# Altium footprint library STM32F_Series_PCB_Library_ARAF.PcbLib: 5 footprints
Each footprint in its own frame and in the unit in brackets; x right, y up, seen from the top. Pads: shape width x height; smd on the part's side, far side on the other; paste and mask are expansions set on the pad; w line width, h text height; cw(c..) or ccw(c..) is an arc to the next point about the centre after c.
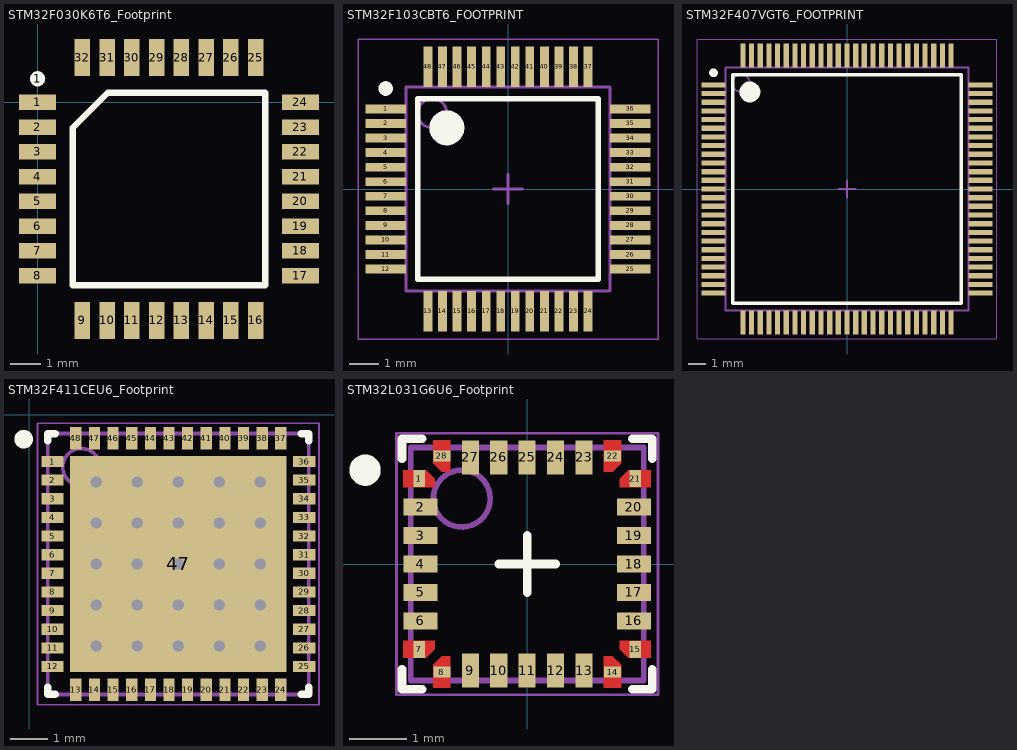
[diagram p0: the footprints below, top view; thin cyan lines are the x and y axes]

## STM32F030K6T6_Footprint [mm]
pads (33):
  rect 1.2x0.5 smd mask+0.038: 1(0,0) 2(0,-0.8) 3(0,-1.6) 4(0,-2.4) 5(0,-3.2) 6(0,-4) 7(0,-4.8) 8(0,-5.6) 17(8.5,-5.6) 18(8.5,-4.8) 19(8.5,-4) 20(8.5,-3.2) 21(8.5,-2.4) 22(8.5,-1.6) 23(8.5,-0.8) 24(8.5,0)
  round 0.5 on Top Overlay mask+0.038: 1(0,0.762)
  rect 0.5x1.2 smd mask+0.038: 9(1.45,-7.05) 10(2.25,-7.05) 11(3.05,-7.05) 12(3.85,-7.05) 13(4.65,-7.05) 14(5.45,-7.05) 15(6.25,-7.05) 16(7.05,-7.05) 25(7.05,1.45) 26(6.25,1.45) 27(5.45,1.45) 28(4.65,1.45) 29(3.85,1.45) 30(3.05,1.45) 31(2.25,1.45) 32(1.45,1.45)
Top Overlay:
  lines w0.2: 1.135,-5.915 7.365,-5.915 7.365,0.315 2.27,0.315 1.135,-0.82 1.135,-5.915
3D body "LQFP-32.step": height 1.6, standoff 0, extent -0.246,-7.296 8.746,1.696

## STM32F103CBT6_FOOTPRINT [mm] "TSQFP, 48-Leads, Body 7.00x7.00mm, Pitch 0.50mm, IPC Medium Density"
height 1.6
pads (48):
  rect 1.4x0.3 smd mask+0.04: 1(-4.2,2.75) 2(-4.2,2.25) 3(-4.2,1.75) 4(-4.2,1.25) 5(-4.2,0.75) 6(-4.2,0.25) 7(-4.2,-0.25) 8(-4.2,-0.75) 9(-4.2,-1.25) 10(-4.2,-1.75) 11(-4.2,-2.25) 12(-4.2,-2.75) 25(4.2,-2.75) 26(4.2,-2.25) 27(4.2,-1.75) 28(4.2,-1.25) 29(4.2,-0.75) 30(4.2,-0.25) 31(4.2,0.25) 32(4.2,0.75) 33(4.2,1.25) 34(4.2,1.75) 35(4.2,2.25) 36(4.2,2.75)
  rect 0.3x1.4 smd mask+0.04: 13(-2.75,-4.2) 14(-2.25,-4.2) 15(-1.75,-4.2) 16(-1.25,-4.2) 17(-0.75,-4.2) 18(-0.25,-4.2) 19(0.25,-4.2) 20(0.75,-4.2) 21(1.25,-4.2) 22(1.75,-4.2) 23(2.25,-4.2) 24(2.75,-4.2) 37(2.75,4.2) 38(2.25,4.2) 39(1.75,4.2) 40(1.25,4.2) 41(0.75,4.2) 42(0.25,4.2) 43(-0.25,4.2) 44(-0.75,4.2) 45(-1.25,4.2) 46(-1.75,4.2) 47(-2.25,4.2) 48(-2.75,4.2)
Top Overlay:
  circle w0.6: c-2.1,2.1 r0.3
  circle w0.25: c-4.2,3.45 r0.125
  lines w0.2: -3.1,-3.1 3.1,-3.1 3.1,3.1 -3.1,3.1 -3.1,-3.1
Mechanical 13:
  circle w0.1: c-2.6,2.6 r0.5
  lines w0.1: -3.5,-3.5 3.5,-3.5 3.5,3.5 -3.5,3.5 -3.5,-3.5
Mechanical 15:
  lines w0.05: -5.15,-5.15 5.15,-5.15 5.15,5.15 -5.15,5.15 -5.15,-5.15
  lines w0.1: -0.5,0 0.5,0 ; 0,-0.5 0,0.5
3D body "TSQFP50P900X900X160-48N.step": height 1.6, standoff 0, extent -4.5,-4.5 4.5,4.5

## STM32F407VGT6_FOOTPRINT [mm]
height 1.6
pads (100):
  rect 1.4x0.3 smd: 1(-7.7,6) 2(-7.7,5.5) 3(-7.7,5) 4(-7.7,4.5) 5(-7.7,4) 6(-7.7,3.5) 7(-7.7,3) 8(-7.7,2.5) 9(-7.7,2) 10(-7.7,1.5) 11(-7.7,1) 12(-7.7,0.5) 13(-7.7,0) 14(-7.7,-0.5) 15(-7.7,-1) 16(-7.7,-1.5) 17(-7.7,-2) 18(-7.7,-2.5) 19(-7.7,-3) 20(-7.7,-3.5) 21(-7.7,-4) 22(-7.7,-4.5) 23(-7.7,-5) 24(-7.7,-5.5) 25(-7.7,-6) 51(7.7,-6) 52(7.7,-5.5) 53(7.7,-5) 54(7.7,-4.5) 55(7.7,-4) 56(7.7,-3.5) 57(7.7,-3) 58(7.7,-2.5) 59(7.7,-2) 60(7.7,-1.5) 61(7.7,-1) 62(7.7,-0.5) 63(7.7,0) 64(7.7,0.5) 65(7.7,1) 66(7.7,1.5) 67(7.7,2) 68(7.7,2.5) 69(7.7,3) 70(7.7,3.5) 71(7.7,4) 72(7.7,4.5) 73(7.7,5) 74(7.7,5.5) 75(7.7,6)
  rect 0.3x1.4 smd: 26(-6,-7.7) 27(-5.5,-7.7) 28(-5,-7.7) 29(-4.5,-7.7) 30(-4,-7.7) 31(-3.5,-7.7) 32(-3,-7.7) 33(-2.5,-7.7) 34(-2,-7.7) 35(-1.5,-7.7) 36(-1,-7.7) 37(-0.5,-7.7) 38(0,-7.7) 39(0.5,-7.7) 40(1,-7.7) 41(1.5,-7.7) 42(2,-7.7) 43(2.5,-7.7) 44(3,-7.7) 45(3.5,-7.7) 46(4,-7.7) 47(4.5,-7.7) 48(5,-7.7) 49(5.5,-7.7) 50(6,-7.7) 76(6,7.7) 77(5.5,7.7) 78(5,7.7) 79(4.5,7.7) 80(4,7.7) 81(3.5,7.7) 82(3,7.7) 83(2.5,7.7) 84(2,7.7) 85(1.5,7.7) 86(1,7.7) 87(0.5,7.7) 88(0,7.7) 89(-0.5,7.7) 90(-1,7.7) 91(-1.5,7.7) 92(-2,7.7) 93(-2.5,7.7) 94(-3,7.7) 95(-3.5,7.7) 96(-4,7.7) 97(-4.5,7.7) 98(-5,7.7) 99(-5.5,7.7) 100(-6,7.7)
Top Overlay:
  circle w0.6: c-5.6,5.6 r0.3
  circle w0.25: c-7.7,6.7 r0.125
  lines w0.2: -6.6,-6.6 6.6,-6.6 6.6,6.6 -6.6,6.6 -6.6,-6.6
Mechanical 13:
  circle w0.1: c-6.1,6.1 r0.5
  lines w0.1: -7,-7 7,-7 7,7 -7,7 -7,-7
Mechanical 15:
  lines w0.05: -8.65,-8.65 8.65,-8.65 8.65,8.65 -8.65,8.65 -8.65,-8.65
  lines w0.1: -0.5,0 0.5,0 ; 0,-0.5 0,0.5
3D body "TSQFP50P1600X1600X160-100N.step": height 1.6, standoff 0, extent -8,-8 8,8

## STM32F411CEU6_Footprint [mm]
pads (49):
  rect 0.6x0.3 smd mask+0.04: 1(0.625,-1.25) 2(0.625,-1.75) 3(0.625,-2.25) 4(0.625,-2.75) 5(0.625,-3.25) 6(0.625,-3.75) 7(0.625,-4.25) 8(0.625,-4.75) 9(0.625,-5.25) 10(0.625,-5.75) 11(0.625,-6.25) 12(0.625,-6.75) 25(7.375,-6.75) 26(7.375,-6.25) 27(7.375,-5.75) 28(7.375,-5.25) 29(7.375,-4.75) 30(7.375,-4.25) 31(7.375,-3.75) 32(7.375,-3.25) 33(7.375,-2.75) 34(7.375,-2.25) 35(7.375,-1.75) 36(7.375,-1.25)
  rect 0.3x0.6 smd mask+0.04: 13(1.25,-7.375) 14(1.75,-7.375) 15(2.25,-7.375) 16(2.75,-7.375) 17(3.25,-7.375) 18(3.75,-7.375) 19(4.25,-7.375) 20(4.75,-7.375) 21(5.25,-7.375) 22(5.75,-7.375) 23(6.25,-7.375) 24(6.75,-7.375) 37(6.75,-0.625) 38(6.25,-0.625) 39(5.75,-0.625) 40(5.25,-0.625) 41(4.75,-0.625) 42(4.25,-0.625) 43(3.75,-0.625) 44(3.25,-0.625) 45(2.75,-0.625) 46(2.25,-0.625) 47(1.75,-0.625) 48(1.25,-0.625)
  rect 5.8x5.8 smd mask+0.04: 47(4,-4)
via 1.8,-1.8 diameter 0.5 hole 0.3
via 4,-1.8 diameter 0.5 hole 0.3
via 6.2,-1.8 diameter 0.5 hole 0.3
via 1.8,-4 diameter 0.5 hole 0.3
via 4,-4 diameter 0.5 hole 0.3
via 6.2,-4 diameter 0.5 hole 0.3
via 1.8,-6.2 diameter 0.5 hole 0.3
via 4,-6.2 diameter 0.5 hole 0.3
via 6.2,-6.2 diameter 0.5 hole 0.3
via 2.9,-6.2 diameter 0.5 hole 0.3
via 2.9,-4 diameter 0.5 hole 0.3
via 2.9,-1.8 diameter 0.5 hole 0.3
via 5.1,-6.2 diameter 0.5 hole 0.3
via 5.1,-4 diameter 0.5 hole 0.3
via 5.1,-1.8 diameter 0.5 hole 0.3
via 5.1,-2.9 diameter 0.5 hole 0.3
via 2.9,-2.9 diameter 0.5 hole 0.3
via 6.2,-2.9 diameter 0.5 hole 0.3
via 4,-2.9 diameter 0.5 hole 0.3
via 1.8,-2.9 diameter 0.5 hole 0.3
via 5.1,-5.1 diameter 0.5 hole 0.3
via 2.9,-5.1 diameter 0.5 hole 0.3
via 6.2,-5.1 diameter 0.5 hole 0.3
via 4,-5.1 diameter 0.5 hole 0.3
via 1.8,-5.1 diameter 0.5 hole 0.3
Top Overlay:
  circle w0.25: c-0.15,-0.65 r0.125
  lines w0.2: 0.5,-7.3 0.5,-7.5 0.7,-7.5 ; 0.5,-0.7 0.5,-0.5 0.7,-0.5 ; 7.3,-7.5 7.5,-7.5 7.5,-7.3 ; 7.3,-0.5 7.5,-0.5 7.5,-0.7
Mechanical 13:
  circle w0.1: c1.4,-1.4 r0.5
  lines w0.1: 0.5,-7.5 0.5,-0.5 7.5,-0.5 7.5,-7.5 0.5,-7.5
Mechanical 15:
  lines w0.05: 0.225,-7.775 0.225,-0.225 7.775,-0.225 7.775,-7.775 0.225,-7.775
  lines w0.1: 3.5,-4 4.5,-4 ; 4,-4.5 4,-3.5
3D body "PQFN50P700X700X60_HS-49N.step": height 0.6, standoff 0, extent 0.45,-7.55 7.55,-0.45

## STM32L031G6U6_Footprint [mm] "PQFN, 28-Leads, Body 4.00x4.00mm, Pitch 0.50mm, IPC Medium Density"
height 0.6
pads (28):
  rect 0.2x0.3 smd mask+0.038: 1(-1.9,1.5) 7(-1.9,-1.5) 15(1.9,-1.5) 21(1.9,1.5)
  rect 0.6x0.3 smd mask+0.038: 2(-1.875,1) 3(-1.875,0.5) 4(-1.875,0) 5(-1.875,-0.5) 6(-1.875,-1) 16(1.875,-1) 17(1.875,-0.5) 18(1.875,0) 19(1.875,0.5) 20(1.875,1)
  rect 0.3x0.2 smd mask+0.038: 8(-1.5,-1.9) 14(1.5,-1.9) 22(1.5,1.9) 28(-1.5,1.9)
  rect 0.3x0.6 smd mask+0.038: 9(-1,-1.875) 10(-0.5,-1.875) 11(0,-1.875) 12(0.5,-1.875) 13(1,-1.875) 23(1,1.875) 24(0.5,1.875) 25(0,1.875) 26(-0.5,1.875) 27(-1,1.875)
Top Layer:
  region: -1.65,1.775 -1.5,1.625 -1.35,1.625 -1.35,2.175 -1.65,2.175
  region: -2.175,1.35 -2.175,1.65 -1.775,1.65 -1.625,1.5 -1.625,1.35
  region: -1.775,-1.65 -1.625,-1.5 -1.625,-1.35 -2.175,-1.35 -2.175,-1.65
  region: -1.35,-2.175 -1.65,-2.175 -1.65,-1.775 -1.5,-1.625 -1.35,-1.625
  region: 2.175,-1.35 2.175,-1.65 1.775,-1.65 1.625,-1.5 1.625,-1.35
  region: 1.65,-1.775 1.5,-1.625 1.35,-1.625 1.35,-2.175 1.65,-2.175
  region: 1.35,2.175 1.65,2.175 1.65,1.775 1.5,1.625 1.35,1.625
  region: 1.775,1.65 1.625,1.5 1.625,1.35 2.175,1.35 2.175,1.65
Top Overlay:
  circle w0.3: c-2.85,1.65 r0.125
  lines w0.153: -2.2,-1.85 -2.2,-2.2 -1.85,-2.2 ; -2.2,1.85 -2.2,2.2 -1.85,2.2 ; -0.5,0 0.5,0 ; 0,-0.5 0,0.5 ; 1.85,-2.2 2.2,-2.2 2.2,-1.85 ; 1.85,2.2 2.2,2.2 2.2,1.85
Mechanical 13:
  circle w0.1: c-1.15,1.15 r0.5
  lines w0.1: -2.05,-2.05 -2.05,2.05 2.05,2.05 2.05,-2.05 -2.05,-2.05
Mechanical 15:
  lines w0.05: -2.3,-2.3 -2.3,2.3 2.3,2.3 2.3,-2.3 -2.3,-2.3
3D body: height 0.6, standoff 0, extent -2.05,-2.05 2.05,2.05